# Altium schematic symbol library STM32WLE5CCU7.SchLib: 2 symbols
Pins are listed as number, name and electrical type; pins without a type are passive.

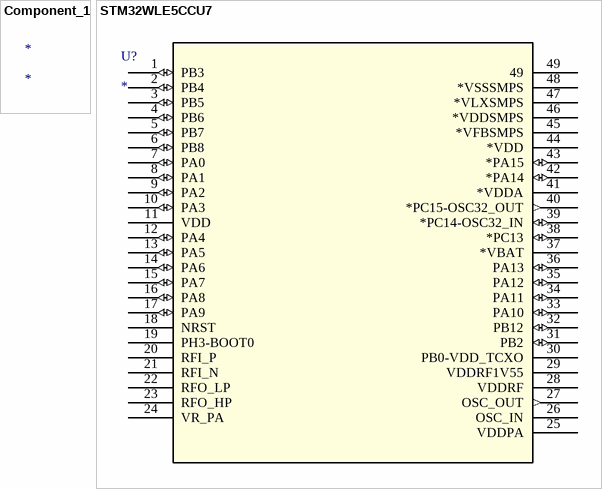
[diagram p0: symbols Component_1 to STM32WLE5CCU7]

## Component_1
designator *

## STM32WLE5CCU7
designator U?
No Description Available; Mfr_Name: STMicroelectronics; RefDes: RefDes; Type: Type
footprint UFQFPN_5CCU7_STM
pins: 1 PB3 (io), 2 PB4 (io), 3 PB5 (io), 4 PB6 (io), 5 PB7 (io), 6 PB8 (io), 7 PA0 (io), 8 PA1 (io), 9 PA2 (io), 10 PA3 (io), 11 VDD (power), 12 PA4 (io), 13 PA5 (io), 14 PA6 (io), 15 PA7 (io), 16 PA8 (io), 17 PA9 (io), 18 NRST, 19 PH3-BOOT0, 20 RFI_P, 21 RFI_N, 22 RFO_LP, 23 RFO_HP, 24 VR_PA, 25 VDDPA (power), 26 OSC_IN, 27 OSC_OUT (out), 28 VDDRF (power), 29 VDDRF1V55 (power), 30 PB0-VDD_TCXO (power), 31 PB2 (io), 32 PB12 (io), 33 PA10 (io), 34 PA11 (io), 35 PA12 (io), 36 PA13 (io), 37 *VBAT, 38 *PC13 (io), 39 *PC14-OSC32_IN (io), 40 *PC15-OSC32_OUT (out), 41 *VDDA (power), 42 *PA14 (io), 43 *PA15 (io), 44 *VDD (power), 45 *VFBSMPS, 46 *VDDSMPS (power), 47 *VLXSMPS, 48 *VSSSMPS (power), 49